# EAGLE library part I2C_SENSOR_HUB_1IN_3OUT (library hub_i2c_sensores_1in_3out)
I2C Sensor Hub – powered by Raspberry Pi
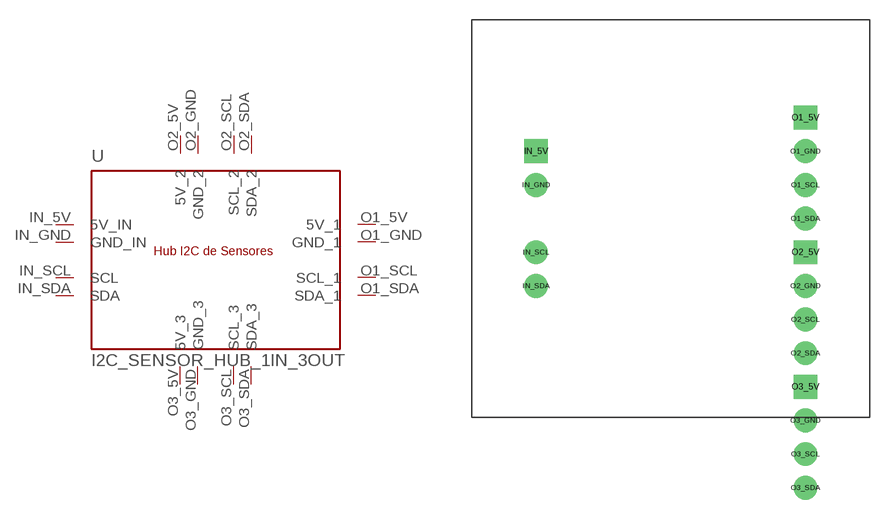
[diagram p0: symbol with the pads of I2C_HUB_1IN_3OUT_THT_2P54; footprint I2C_HUB_1IN_3OUT_THT_2P54]

Designator prefix U

## I2C_SENSOR_HUB_1IN_3OUT  [I2C_HUB_1IN_3OUT_THT_2P54]
IN_5V  5V_IN  pwr
IN_GND  GND_IN  pwr
IN_SCL  SCL
IN_SDA  SDA
O1_5V  5V_1  pwr
O1_GND  GND_1  pwr
O1_SCL  SCL_1
O1_SDA  SDA_1
O2_5V  5V_2  pwr
O2_GND  GND_2  pwr
O2_SCL  SCL_2
O2_SDA  SDA_2
O3_5V  5V_3  pwr
O3_GND  GND_3  pwr
O3_SCL  SCL_3
O3_SDA  SDA_3

## Footprint I2C_HUB_1IN_3OUT_THT_2P54 (pad centres in mm)
Footprint: - 1x 4-pin IN (5V, GND, SCL, SDA) - 3x 4-pin OUT (VCC, GND, SCL, SDA) All connectors THT 2.54mm
drill 1 pad 1.8 square: IN_5V -10.16,5.08; O1_5V 10.16,7.62; O2_5V 10.16,-2.54; O3_5V 10.16,-12.7
drill 1 pad 1.8: IN_GND -10.16,2.54; IN_SCL -10.16,-2.54; IN_SDA -10.16,-5.08; O1_GND 10.16,5.08; O1_SCL 10.16,2.54; O1_SDA 10.16,0; O2_GND 10.16,-5.08; O2_SCL 10.16,-7.62; O2_SDA 10.16,-10.16; O3_GND 10.16,-15.24; O3_SCL 10.16,-17.78; O3_SDA 10.16,-20.32